# EAGLE library part ESP8266 (library Fortech)
Microprocesor WiFi ESP8266
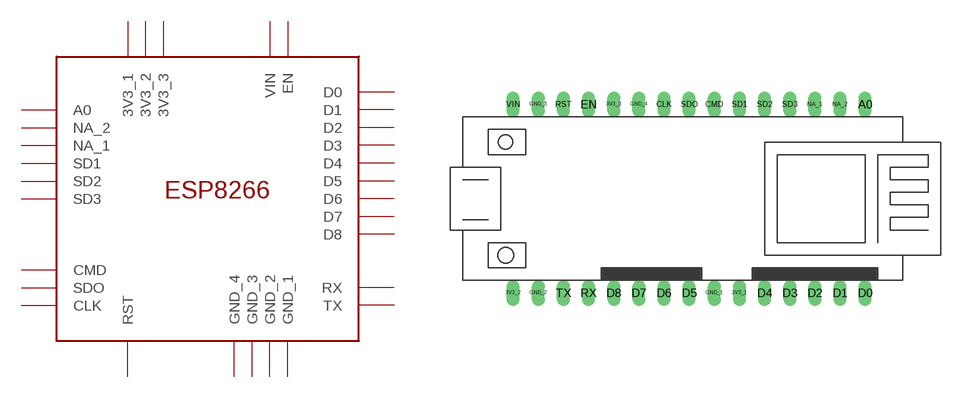
[diagram p8: symbol with the pads of ESP8266; footprint ESP8266]

Designator prefix -

## ESP8266  [ESP8266]
3V3_1  3V3_1
3V3_2  3V3_2
3V3_3  3V3_3
A0  A0
CLK  CLK
CMD  CMD
D0  D0
D1  D1
D2  D2
D3  D3
D4  D4
D5  D5
D6  D6
D7  D7
D8  D8
EN  EN
GND_1  GND_1
GND_2  GND_2
GND_3  GND_3
GND_4  GND_4
NA_1  NA_1
NA_2  NA_2
RST  RST
RX  RX
SD1  SD1
SD2  SD2
SD3  SD3
SDO  SDO
TX  TX
VIN  VIN

## Footprint ESP8266 (pad centres in mm)
drill 0.8 long: 3V3_1 5.08,-8.89; 3V3_2 -17.78,-8.89; 3V3_3 -7.62,10.16; A0 17.78,10.16; CLK -2.54,10.16; CMD 2.54,10.16; D0 17.78,-8.89; D1 15.24,-8.89; D2 12.7,-8.89; D3 10.16,-8.89; D4 7.62,-8.89; D5 0,-8.89; D6 -2.54,-8.89; D7 -5.08,-8.89; D8 -7.62,-8.89; EN -10.16,10.16; GND_1 2.54,-8.89; GND_2 -15.24,-8.89; GND_3 -15.24,10.16; GND_4 -5.08,10.16; NA_1 12.7,10.16; NA_2 15.24,10.16; RST -12.7,10.16; RX -10.16,-8.89; SD1 5.08,10.16; SD2 7.62,10.16; SD3 10.16,10.16; SDO 0,10.16; TX -12.7,-8.89; VIN -17.78,10.16